# EAGLE library part ADC12020CIVYX (library ICs)
12 Bit Analog to Digital Converter 1 Input 1 Pipelined 32-TQFP (7x7) ADC
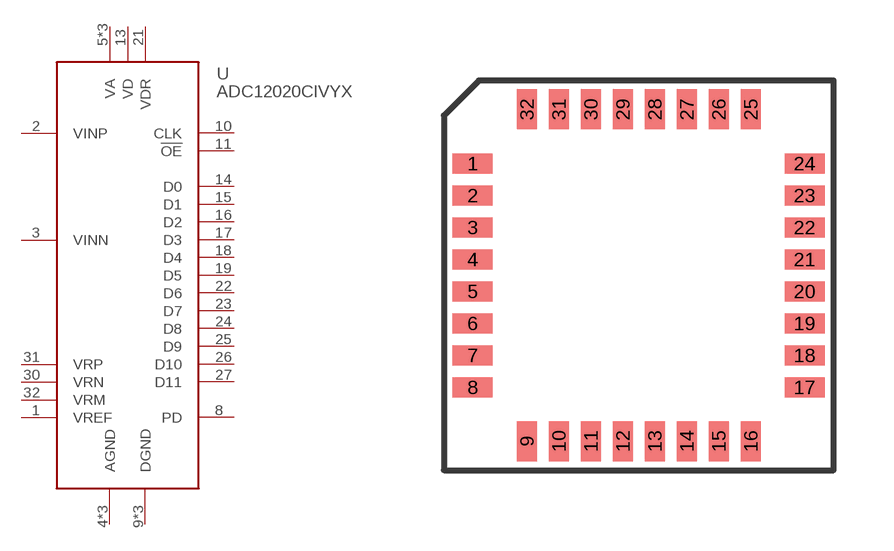
[diagram p309: symbol with the pads of QFP32_0.8MM; footprint QFP32_0.8MM]

Designator prefix U

## ADC12020CIVYX (DIGIKEY: 296-50306-1-ND; HEIGHT: 2; PRICE_PER: 11.12; VALUE: ADC12020)  [QFP32_0.8MM]
1  VREF
2  VINP
3  VINN
4  AGND
5  VA
6  VA
7  AGND
8  PD
9  DGND
10  CLK
11  !OE
12  DGND
13  VD
14  D0
15  D1
16  D2
17  D3
18  D4
19  D5
20  DGND
21  VDR
22  D6
23  D7
24  D8
25  D9
26  D10
27  D11
28  AGND
29  VA
30  VRN
31  VRP
32  VRM

## Footprint QFP32_0.8MM (pad centres in mm)
smd 1 x 0.5: 1 -4.15,2.8; 2 -4.15,2; 3 -4.15,1.2; 4 -4.15,0.4; 5 -4.15,-0.4; 6 -4.15,-1.2; 7 -4.15,-2; 8 -4.15,-2.8; 17 4.15,-2.8; 18 4.15,-2; 19 4.15,-1.2; 20 4.15,-0.4; 21 4.15,0.4; 22 4.15,1.2; 23 4.15,2; 24 4.15,2.8
smd 0.5 x 1: 9 -2.8,-4.15; 10 -2,-4.15; 11 -1.2,-4.15; 12 -0.4,-4.15; 13 0.4,-4.15; 14 1.2,-4.15; 15 2,-4.15; 16 2.8,-4.15; 25 2.8,4.15; 26 2,4.15; 27 1.2,4.15; 28 0.4,4.15; 29 -0.4,4.15; 30 -1.2,4.15; 31 -2,4.15; 32 -2.8,4.15